# Altium footprint library Package_SON.PcbLib: 112 footprints (part 3 of 7)
Each footprint in its own frame and in the unit in brackets; x right, y up, seen from the top. Pads: shape width x height; smd on the part's side, far side on the other; paste and mask are expansions set on the pad; w line width, h text height; cw(c..) or ccw(c..) is an arc to the next point about the centre after c.
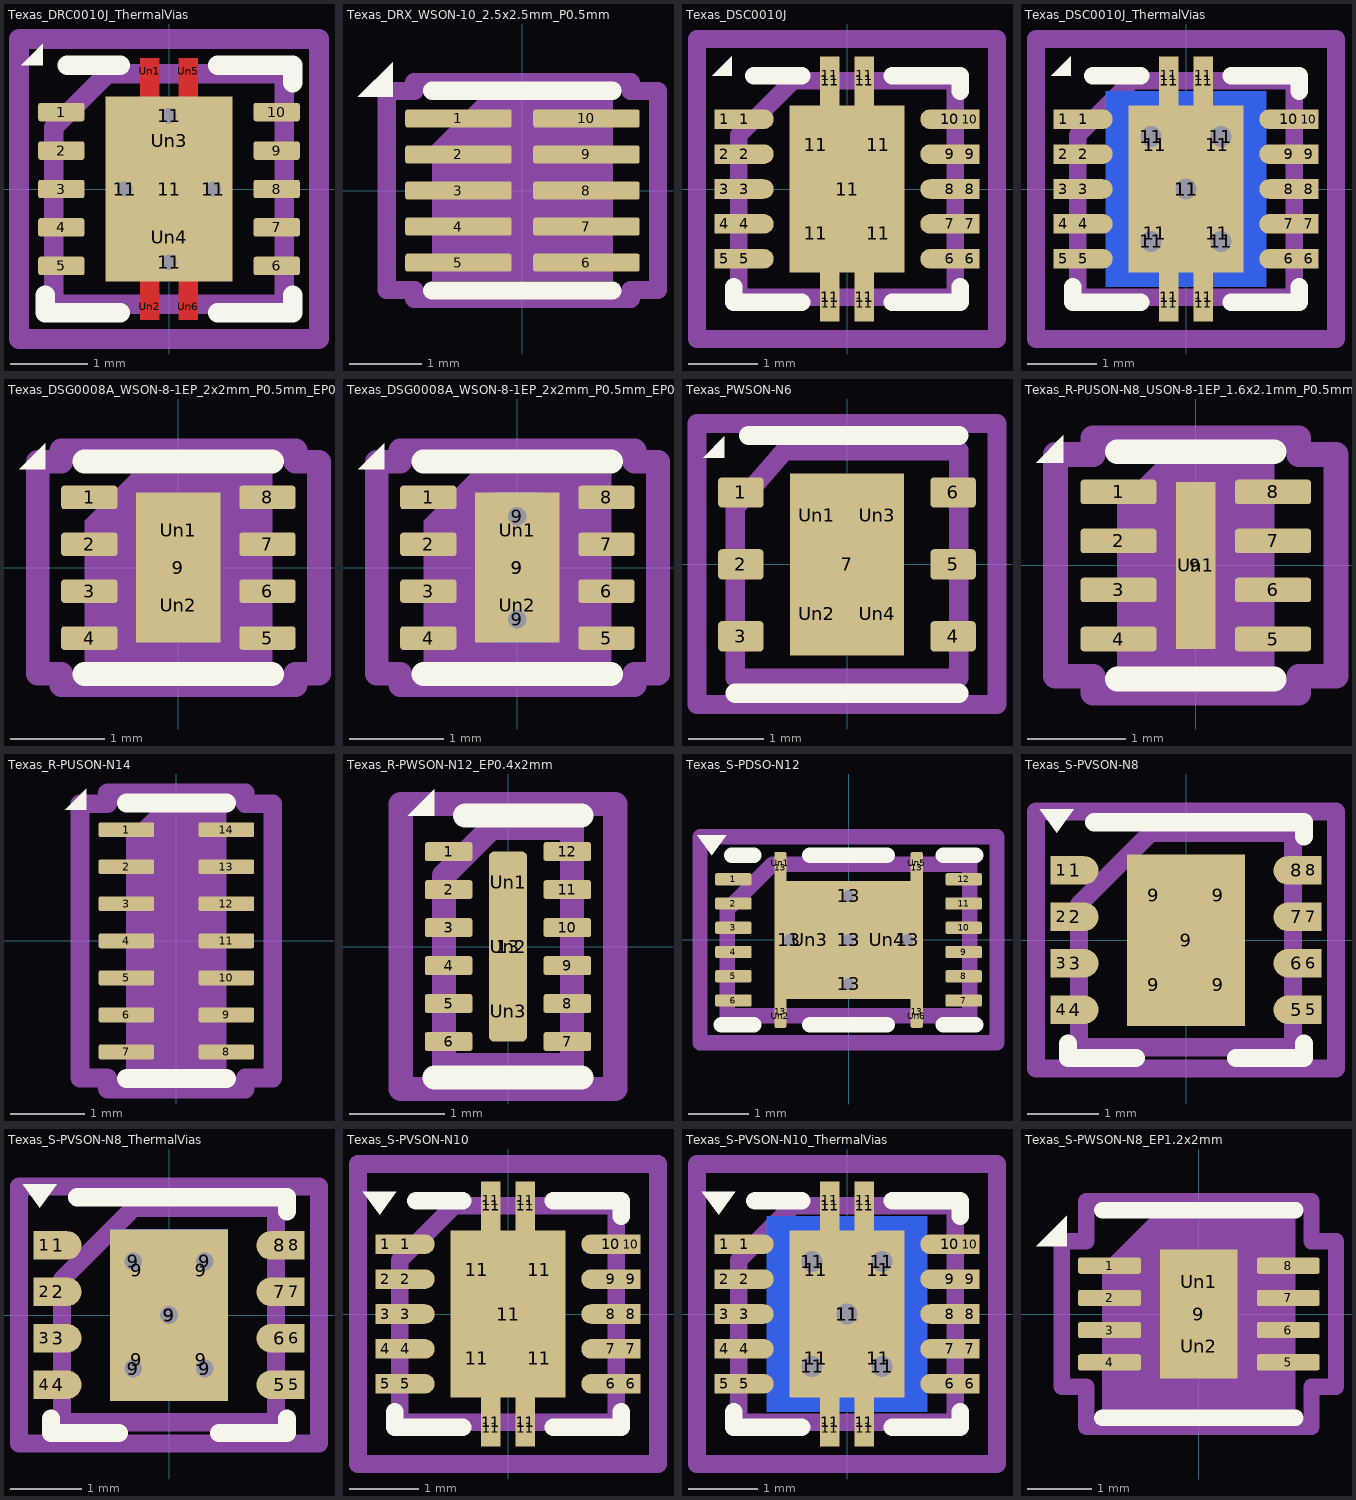
[diagram p2: the footprints below, top view; thin cyan lines are the x and y axes]

## Texas_DRC0010J_ThermalVias [mm] "Texas_DRC0010J_ThermalVias"
pads (21):
  rrect25% 0.6x0.24 smd: 1(-1.4,1) 2(-1.4,0.5) 3(-1.4,0) 4(-1.4,-0.5) 5(-1.4,-1) 6(1.4,-1) 7(1.4,-0.5) 8(1.4,0) 9(1.4,0.5) 10(1.4,1)
  round 0.5 hole 0.2: 11(-0.575,0) 11(0,-0.95) 11(0,0.95) 11(0.575,0)
  rect 1.65x2.4 smd: 11(0,0)
  rrect10% 0.25x0.34 on Top Paste: Un1(-0.25,1.53) Un2(-0.25,-1.53) Un5(0.25,1.53) Un6(0.25,-1.53)
  rrect10% 1.5x1.06 on Top Paste: Un3(0,0.63) Un4(0,-0.63)
F.Cu:
  region: 0.375,-1.7 0.125,-1.7 0.125,-1.1 -0.125,-1.1 -0.125,-1.7 -0.375,-1.7 -0.375,1.7 -0.125,1.7 -0.125,1.1 0.125,1.1 0.125,1.7 0.375,1.7
F.SilkS:
  region: -1.64,1.61 -1.92,1.61 -1.64,1.89
  lines w0.254: -1.61,-1.38 -1.61,-1.61 -0.635,-1.61 ; -1.32,1.61 -0.635,1.61 ; 0.635,-1.61 1.61,-1.61 1.61,-1.38 ; 0.635,1.61 1.61,1.61 1.61,1.38
F.Mask:
  region: 0.375,-1.7 0.125,-1.7 0.125,-1.1 -0.125,-1.1 -0.125,-1.7 -0.375,-1.7 -0.375,1.7 -0.125,1.7 -0.125,1.1 0.125,1.1 0.125,1.7 0.375,1.7
Top Component Center:
  lines w0.127: -0.127,0 0.127,0 ; 0,-0.127 0,0.127
Top Assembly:
  lines w0.254: -1.5,-1.5 -1.5,0.8 -0.8,1.5 1.5,1.5 1.5,-1.5 -1.5,-1.5
Top Courtyard:
  lines w0.254: -1.95,-1.95 -1.95,1.95 1.95,1.95 1.95,-1.95 -1.95,-1.95
Top Designator:
  text ".Designator" at -3.434,-0.345 h1.52

## Texas_DRX_WSON-10_2.5x2.5mm_P0.5mm [mm] "Texas_DRX_WSON-10_2.5x2.5mm_P0.5mm"
pads (10):
  rrect25% 1.475x0.25 smd: 1(-0.887,1) 2(-0.887,0.5) 3(-0.887,0) 4(-0.887,-0.5) 5(-0.887,-1) 6(0.887,-1) 7(0.887,-0.5) 8(0.887,0) 9(0.887,0.5) 10(0.887,1)
F.SilkS:
  region: -1.8,1.3 -2.28,1.3 -1.8,1.78
  lines w0.254: -1.25,-1.385 1.25,-1.385 ; -1.25,1.385 1.25,1.385
Top Component Center:
  lines w0.127: -0.127,0 0.127,0 ; 0,-0.127 0,0.127
Top Assembly:
  region: 1.25,-1.25 -1.25,-1.25 -1.25,0.625 -0.625,1.25 1.25,1.25
Top Courtyard:
  lines w0.254: -1.88,-1.38 -1.5,-1.38 -1.5,-1.5 1.5,-1.5 1.5,-1.38 1.88,-1.38 1.88,1.38 1.5,1.38 1.5,1.5 -1.5,1.5 -1.5,1.38 -1.88,1.38 -1.88,-1.38
Top Designator:
  text ".Designator" at -3.434,-0.345 h1.52

## Texas_DSC0010J [mm] "Texas_DSC0010J"
pads (33):
  rect 0.28x0.28 smd: 1(-1.76,1) 2(-1.76,0.5) 3(-1.76,0) 4(-1.76,-0.5) 5(-1.76,-1) 6(1.76,-1) 7(1.76,-0.5) 8(1.76,0) 9(1.76,0.5) 10(1.76,1)
  rrect100% 0.85x0.28 smd: 1(-1.475,1) 2(-1.475,0.5) 3(-1.475,0) 4(-1.475,-0.5) 5(-1.475,-1) 6(1.475,-1) 7(1.475,-0.5) 8(1.475,0) 9(1.475,0.5) 10(1.475,1)
  rect 0.68x1.05 smd: 11(-0.45,-0.635) 11(-0.45,0.635) 11(0.45,-0.635) 11(0.45,0.635)
  rect 0.26x0.5 smd: 11(-0.25,-1.63) 11(-0.25,1.63) 11(0.25,-1.63) 11(0.25,1.63)
  rect 0.28x0.7 smd: 11(-0.25,-1.55) 11(-0.25,1.55) 11(0.25,-1.55) 11(0.25,1.55)
  rect 1.65x2.4 smd: 11(0,0)
F.SilkS:
  region: -1.655,1.625 -1.935,1.625 -1.655,1.905
  lines w0.254: -1.625,-1.4 -1.625,-1.625 -0.65,-1.625 ; -1.335,1.625 -0.65,1.625 ; 0.65,-1.625 1.625,-1.625 1.625,-1.4 ; 0.65,1.625 1.625,1.625 1.625,1.4
Top Component Center:
  lines w0.127: -0.127,0 0.127,0 ; 0,-0.127 0,0.127
Top Assembly:
  lines w0.254: -1.55,-1.55 1.55,-1.55 1.55,1.55 -0.775,1.55 -1.55,0.775 -1.55,-1.55
Top Courtyard:
  lines w0.254: -2.15,-2.15 2.15,-2.15 2.15,2.15 -2.15,2.15 -2.15,-2.15
Top Designator:
  text ".Designator" at -3.434,-0.345 h1.52

## Texas_DSC0010J_ThermalVias [mm] "Texas_DSC0010J_ThermalVias"
pads (39):
  rect 0.28x0.28 smd: 1(-1.76,1) 2(-1.76,0.5) 3(-1.76,0) 4(-1.76,-0.5) 5(-1.76,-1) 6(1.76,-1) 7(1.76,-0.5) 8(1.76,0) 9(1.76,0.5) 10(1.76,1)
  rrect100% 0.85x0.28 smd: 1(-1.475,1) 2(-1.475,0.5) 3(-1.475,0) 4(-1.475,-0.5) 5(-1.475,-1) 6(1.475,-1) 7(1.475,-0.5) 8(1.475,0) 9(1.475,0.5) 10(1.475,1)
  round 0.6 hole 0.3: 11(-0.5,-0.75) 11(-0.5,0.75) 11(0,0) 11(0.5,-0.75) 11(0.5,0.75)
  rect 0.68x1.05 smd: 11(-0.45,-0.635) 11(-0.45,0.635) 11(0.45,-0.635) 11(0.45,0.635)
  rect 0.26x0.5 smd: 11(-0.25,-1.63) 11(-0.25,1.63) 11(0.25,-1.63) 11(0.25,1.63)
  rect 0.28x0.7 smd: 11(-0.25,-1.55) 11(-0.25,1.55) 11(0.25,-1.55) 11(0.25,1.55)
  rect 1.65x2.4 smd: 11(0,0)
  rect 2.3x2.8 smd far side: 11(0,0)
F.SilkS:
  region: -1.655,1.625 -1.935,1.625 -1.655,1.905
  lines w0.254: -1.625,-1.4 -1.625,-1.625 -0.65,-1.625 ; -1.335,1.625 -0.65,1.625 ; 0.65,-1.625 1.625,-1.625 1.625,-1.4 ; 0.65,1.625 1.625,1.625 1.625,1.4
Top Component Center:
  lines w0.127: -0.127,0 0.127,0 ; 0,-0.127 0,0.127
Top Assembly:
  lines w0.254: -1.55,-1.55 1.55,-1.55 1.55,1.55 -0.775,1.55 -1.55,0.775 -1.55,-1.55
Top Courtyard:
  lines w0.254: -2.15,-2.15 2.15,-2.15 2.15,2.15 -2.15,2.15 -2.15,-2.15
Top Designator:
  text ".Designator" at -3.434,-0.345 h1.52

## Texas_DSG0008A_WSON-8-1EP_2x2mm_P0.5mm_EP0.9x1.6mm [mm] "Texas_DSG0008A_WSON-8-1EP_2x2mm_P0.5mm_EP0.9x1.6mm"
pads (11):
  rrect25% 0.6x0.25 smd: 1(-0.95,0.75) 2(-0.95,0.25) 3(-0.95,-0.25) 4(-0.95,-0.75) 5(0.95,-0.75) 6(0.95,-0.25) 7(0.95,0.25) 8(0.95,0.75)
  rect 0.9x1.6 smd: 9(0,0)
  rrect25% 0.73x0.64 on Top Paste: Un1(0,0.4) Un2(0,-0.4)
F.SilkS:
  region: -1.42,1.05 -1.7,1.05 -1.42,1.33
  lines w0.254: -1,-1.135 1,-1.135 ; -1,1.135 1,1.135
Top Component Center:
  lines w0.127: -0.127,0 0.127,0 ; 0,-0.127 0,0.127
Top Assembly:
  region: 1,-1 -1,-1 -1,0.5 -0.5,1 1,1
Top Courtyard:
  lines w0.254: -1.5,-1.13 -1.5,1.13 -1.25,1.13 -1.25,1.25 1.25,1.25 1.25,1.13 1.5,1.13 1.5,-1.13 1.25,-1.13 1.25,-1.25 -1.25,-1.25 -1.25,-1.13 -1.5,-1.13
Top Designator:
  text ".Designator" at -2.252,-0.226 h1

## Texas_DSG0008A_WSON-8-1EP_2x2mm_P0.5mm_EP0.9x1.6mm_ThermalVias [mm] "Texas_DSG0008A_WSON-8-1EP_2x2mm_P0.5mm_EP0.9x1.6mm_ThermalVias"
pads (14):
  rrect25% 0.6x0.25 smd: 1(-0.95,0.75) 2(-0.95,0.25) 3(-0.95,-0.25) 4(-0.95,-0.75) 5(0.95,-0.75) 6(0.95,-0.25) 7(0.95,0.25) 8(0.95,0.75)
  round 0.5 hole 0.2: 9(0,-0.55) 9(0,0.55)
  rect 0.9x1.6 smd: 9(0,0)
  rect 0.5x1.6 smd far side: 9(0,0)
  rrect25% 0.83x0.74 on Top Paste: Un1(0,0.4) Un2(0,-0.4)
F.SilkS:
  region: -1.42,1.05 -1.7,1.05 -1.42,1.33
  lines w0.254: -1,-1.135 1,-1.135 ; -1,1.135 1,1.135
Top Component Center:
  lines w0.127: -0.127,0 0.127,0 ; 0,-0.127 0,0.127
Top Assembly:
  region: 1,-1 -1,-1 -1,0.5 -0.5,1 1,1
Top Courtyard:
  lines w0.254: -1.5,-1.13 -1.5,1.13 -1.25,1.13 -1.25,1.25 1.25,1.25 1.25,1.13 1.5,1.13 1.5,-1.13 1.25,-1.13 1.25,-1.25 -1.25,-1.25 -1.25,-1.13 -1.5,-1.13
Top Designator:
  text ".Designator" at -2.252,-0.226 h1

## Texas_PWSON-N6 [mm] "Texas_PWSON-N6"
pads (11):
  rrect25% 0.6x0.4 smd: 1(-1.4,0.95) 2(-1.4,0) 3(-1.4,-0.95) 4(1.4,-0.95) 5(1.4,0) 6(1.4,0.95)
  rect 1.5x2.4 smd: 7(0,0)
  rrect25% 0.6x1 on Top Paste: Un1(-0.4,0.65) Un2(-0.4,-0.65) Un3(0.4,0.65) Un4(0.4,-0.65)
F.SilkS:
  region: -1.62,1.41 -1.9,1.41 -1.62,1.69
  lines w0.254: -1.475,-1.7 1.475,-1.7 ; -1.3,1.7 1.475,1.7
Top Component Center:
  lines w0.127: -0.127,0 0.127,0 ; 0,-0.127 0,0.127
Top Assembly:
  lines w0.254: -1.475,-1.5 -1.475,0.75 -0.825,1.5 1.475,1.5 1.475,-1.5 -1.475,-1.5
Top Courtyard:
  lines w0.254: -1.98,1.85 -1.98,-1.85 1.98,-1.85 1.98,1.85 ; -1.98,1.86 1.98,1.86
Top Designator:
  text ".Designator" at -3.434,-0.345 h1.52

## Texas_R-PUSON-N8_USON-8-1EP_1.6x2.1mm_P0.5mm_EP0.4x1.7mm [mm] "Texas_R-PUSON-N8_USON-8-1EP_1.6x2.1mm_P0.5mm_EP0.4x1.7mm"
pads (10):
  rrect25% 0.775x0.25 smd: 1(-0.787,0.75) 2(-0.787,0.25) 3(-0.787,-0.25) 4(-0.787,-0.75) 5(0.787,-0.75) 6(0.787,-0.25) 7(0.787,0.25) 8(0.787,0.75)
  rect 0.4x1.7 smd: 9(0,0)
  rrect25% 0.32x1.37 on Top Paste: Un1(0,0)
F.SilkS:
  region: -1.35,1.05 -1.63,1.05 -1.35,1.33
  lines w0.254: -0.8,-1.16 0.8,-1.16 ; -0.8,1.16 0.8,1.16
Top Component Center:
  lines w0.127: -0.127,0 0.127,0 ; 0,-0.127 0,0.127
Top Assembly:
  region: 0.8,-1.05 -0.8,-1.05 -0.8,0.65 -0.4,1.05 0.8,1.05
Top Courtyard:
  lines w0.254: -1.43,-1.13 -1.05,-1.13 -1.05,-1.3 1.05,-1.3 1.05,-1.13 1.43,-1.13 1.43,1.13 1.05,1.13 1.05,1.3 -1.05,1.3 -1.05,1.13 -1.43,1.13 -1.43,-1.13
Top Designator:
  text ".Designator" at -2.252,-0.226 h1

## Texas_R-PUSON-N14 [mm] "Texas_R-PUSON-N14"
pads (14):
  rrect25% 0.75x0.2 smd: 1(-0.675,1.5) 2(-0.675,1) 3(-0.675,0.5) 4(-0.675,0) 5(-0.675,-0.5) 6(-0.675,-1) 7(-0.675,-1.5) 8(0.675,-1.5) 9(0.675,-1) 10(0.675,-0.5) 11(0.675,0) 12(0.675,0.5) 13(0.675,1) 14(0.675,1.5)
F.SilkS:
  region: -1.22,1.77 -1.5,1.77 -1.22,2.05
  lines w0.254: -0.675,-1.86 0.675,-1.86 ; -0.675,1.86 0.675,1.86
Top Component Center:
  lines w0.127: -0.127,0 0.127,0 ; 0,-0.127 0,0.127
Top Assembly:
  region: 0.675,-1.75 -0.675,-1.75 -0.675,1.412 -0.337,1.75 0.675,1.75
Top Courtyard:
  lines w0.254: -1.3,-1.85 -0.93,-1.85 -0.93,-2 0.93,-2 0.93,-1.85 1.3,-1.85 1.3,1.85 0.93,1.85 0.93,2 -0.93,2 -0.93,1.85 -1.3,1.85 -1.3,-1.85
Top Designator:
  text ".Designator" at -2.252,-0.226 h1

## Texas_R-PWSON-N12_EP0.4x2mm [mm] "Texas_R-PWSON-N12_EP0.4x2mm"
pads (16):
  rrect25% 0.5x0.2 smd: 1(-0.625,1) 2(-0.625,0.6) 3(-0.625,0.2) 4(-0.625,-0.2) 5(-0.625,-0.6) 6(-0.625,-1) 7(0.625,-1) 8(0.625,-0.6) 9(0.625,-0.2) 10(0.625,0.2) 11(0.625,0.6) 12(0.625,1)
  rrect25% 0.4x2 smd: 13(0,0)
  rrect25% 0.3x0.55 on Top Paste: Un1(0,0.68) Un2(0,0) Un3(0,-0.68)
F.SilkS:
  region: -0.775,1.38 -1.055,1.38 -0.775,1.66
  lines w0.254: -0.775,-1.38 0.775,-1.38 ; -0.45,1.38 0.775,1.38
Top Component Center:
  lines w0.127: -0.127,0 0.127,0 ; 0,-0.127 0,0.127
Top Assembly:
  lines w0.254: -0.675,-1.25 0.675,-1.25 0.675,1.25 -0.175,1.25 -0.675,0.75 -0.675,-1.25
Top Courtyard:
  lines w0.254: -1.13,-1.5 1.13,-1.5 1.13,1.5 -1.13,1.5 -1.13,-1.5
Top Designator:
  text ".Designator" at -2.252,-0.226 h1
3D body "Texas_R-PWSON-N12_EP0.4x2mm.step": height 0.77, standoff 0, extent -0.675,-1.24 0.675,1.24

## Texas_S-PDSO-N12 [mm] "Texas_S-PDSO-N12"
pads (28):
  rrect25% 0.6x0.2 smd: 1(-1.9,1) 2(-1.9,0.6) 3(-1.9,0.2) 4(-1.9,-0.2) 5(-1.9,-0.6) 6(-1.9,-1) 7(1.9,-1) 8(1.9,-0.6) 9(1.9,-0.2) 10(1.9,0.2) 11(1.9,0.6) 12(1.9,1)
  rrect25% 0.2x0.525 smd: 13(-1.125,-1.188) 13(-1.125,1.188) 13(1.125,-1.188) 13(1.125,1.188)
  round 0.5 hole 0.2: 13(-0.975,0) 13(0,-0.725) 13(0,0) 13(0,0.725) 13(0.975,0)
  rect 2.45x1.95 smd: 13(0,0)
  rrect25% 0.2x0.375 on Top Paste: Un1(-1.125,1.262) Un2(-1.125,-1.262) Un5(1.125,1.262) Un6(1.125,-1.262)
  rrect25% 1.08x1.75 on Top Paste: Un3(-0.64,0) Un4(0.64,0)
F.SilkS:
  region: -2.26,1.4 -2.5,1.73 -2.02,1.73
  lines w0.254: -2.1,-1.4 -1.56,-1.4 ; -1.93,1.397 -1.56,1.397 ; -0.64,-1.4 0.64,-1.4 ; -0.64,1.4 0.64,1.4 ; 1.56,-1.4 2.1,-1.4 ; 1.56,1.4 2.1,1.4
Top Component Center:
  lines w0.127: -0.127,0 0.127,0 ; 0,-0.127 0,0.127
Top Assembly:
  lines w0.254: -2,-1.25 2,-1.25 2,1.25 -1.25,1.25 -2,0.5 -2,-1.25
Top Courtyard:
  lines w0.254: -2.45,-1.7 2.45,-1.7 2.45,1.7 -2.45,1.7 -2.45,-1.7
Top Designator:
  text ".Designator" at -3.434,-0.345 h1.52
3D body "Texas_S-PDSO-N12.step": height 0.92, standoff 0, extent -2,-1.25 2,1.25

## Texas_S-PVSON-N8 [mm] "Texas_S-PVSON-N8"
pads (21):
  rect 0.3x0.4 smd: 1(-1.75,0.975) 2(-1.75,0.325) 3(-1.75,-0.325) 4(-1.75,-0.975) 5(1.75,-0.975) 6(1.75,-0.325) 7(1.75,0.325) 8(1.75,0.975)
  rrect100% 0.65x0.4 smd: 1(-1.55,0.975) 2(-1.55,0.325) 3(-1.55,-0.325) 4(-1.55,-0.975) 5(1.55,-0.975) 6(1.55,-0.325) 7(1.55,0.325) 8(1.55,0.975)
  rect 0.65x1 smd: 9(-0.45,-0.625) 9(-0.45,0.625) 9(0.45,-0.625) 9(0.45,0.625)
  rect 1.65x2.4 smd: 9(0,0)
F.SilkS:
  region: -1.81,1.5 -2.05,1.83 -1.57,1.83
  lines w0.254: -1.65,-1.45 -1.65,-1.65 -0.7,-1.65 ; -1.285,1.65 1.65,1.65 1.65,1.45 ; 0.7,-1.65 1.65,-1.65 1.65,-1.45
Top Component Center:
  lines w0.127: -0.127,0 0.127,0 ; 0,-0.127 0,0.127
Top Assembly:
  lines w0.254: -1.5,-1.5 1.5,-1.5 1.5,1.5 -0.5,1.5 -1.5,0.5 -1.5,-1.5
Top Courtyard:
  lines w0.254: -2.1,-1.8 2.1,-1.8 2.1,1.8 -2.1,1.8 -2.1,-1.8
Top Designator:
  text ".Designator" at -3.434,-0.345 h1.52
3D body "Texas_S-PVSON-N8.step": height 0.92, standoff 0, extent -1.5,-1.49 1.5,1.49

## Texas_S-PVSON-N8_ThermalVias [mm] "Texas_S-PVSON-N8_ThermalVias"
pads (27):
  rect 0.3x0.4 smd: 1(-1.75,0.975) 2(-1.75,0.325) 3(-1.75,-0.325) 4(-1.75,-0.975) 5(1.75,-0.975) 6(1.75,-0.325) 7(1.75,0.325) 8(1.75,0.975)
  rrect100% 0.65x0.4 smd: 1(-1.55,0.975) 2(-1.55,0.325) 3(-1.55,-0.325) 4(-1.55,-0.975) 5(1.55,-0.975) 6(1.55,-0.325) 7(1.55,0.325) 8(1.55,0.975)
  round 0.6 hole 0.25: 9(-0.5,-0.75) 9(-0.5,0.75) 9(0,0) 9(0.5,-0.75) 9(0.5,0.75)
  rect 0.65x1 smd: 9(-0.45,-0.625) 9(-0.45,0.625) 9(0.45,-0.625) 9(0.45,0.625)
  rect 1.65x2.4 smd: 9(0,0)
  rect 1.65x2.4 smd far side: 9(0,0)
F.SilkS:
  region: -1.81,1.5 -2.05,1.83 -1.57,1.83
  lines w0.254: -1.65,-1.45 -1.65,-1.65 -0.7,-1.65 ; -1.285,1.65 1.65,1.65 1.65,1.45 ; 0.7,-1.65 1.65,-1.65 1.65,-1.45
Top Component Center:
  lines w0.127: -0.127,0 0.127,0 ; 0,-0.127 0,0.127
Top Assembly:
  lines w0.254: -1.5,-1.5 1.5,-1.5 1.5,1.5 -0.5,1.5 -1.5,0.5 -1.5,-1.5
Top Courtyard:
  lines w0.254: -2.1,-1.8 2.1,-1.8 2.1,1.8 -2.1,1.8 -2.1,-1.8
Top Designator:
  text ".Designator" at -3.434,-0.345 h1.52
3D body "Texas_S-PVSON-N8.step": height 0.92, standoff 0, extent -1.5,-1.49 1.5,1.49

## Texas_S-PVSON-N10 [mm] "Texas_S-PVSON-N10"
pads (33):
  rect 0.28x0.28 smd: 1(-1.76,1) 2(-1.76,0.5) 3(-1.76,0) 4(-1.76,-0.5) 5(-1.76,-1) 6(1.76,-1) 7(1.76,-0.5) 8(1.76,0) 9(1.76,0.5) 10(1.76,1)
  rrect100% 0.85x0.28 smd: 1(-1.475,1) 2(-1.475,0.5) 3(-1.475,0) 4(-1.475,-0.5) 5(-1.475,-1) 6(1.475,-1) 7(1.475,-0.5) 8(1.475,0) 9(1.475,0.5) 10(1.475,1)
  rect 0.68x1.05 smd: 11(-0.45,-0.635) 11(-0.45,0.635) 11(0.45,-0.635) 11(0.45,0.635)
  rect 0.26x0.5 smd: 11(-0.25,-1.63) 11(-0.25,1.63) 11(0.25,-1.63) 11(0.25,1.63)
  rect 0.28x0.7 smd: 11(-0.25,-1.55) 11(-0.25,1.55) 11(0.25,-1.55) 11(0.25,1.55)
  rect 1.65x2.4 smd: 11(0,0)
F.SilkS:
  region: -1.84,1.42 -2.08,1.75 -1.6,1.75
  lines w0.254: -1.625,-1.4 -1.625,-1.625 -0.65,-1.625 ; -1.32,1.625 -0.65,1.625 ; 0.65,-1.625 1.625,-1.625 1.625,-1.4 ; 0.65,1.625 1.625,1.625 1.625,1.4
Top Component Center:
  lines w0.127: -0.127,0 0.127,0 ; 0,-0.127 0,0.127
Top Assembly:
  lines w0.254: -1.55,-1.55 1.55,-1.55 1.55,1.55 -0.775,1.55 -1.55,0.775 -1.55,-1.55
Top Courtyard:
  lines w0.254: -2.15,-2.15 2.15,-2.15 2.15,2.15 -2.15,2.15 -2.15,-2.15
Top Designator:
  text ".Designator" at -3.434,-0.345 h1.52
3D body "Texas_S-PVSON-N10.step": height 0.92, standoff 0, extent -1.5,-1.5 1.5,1.5

## Texas_S-PVSON-N10_ThermalVias [mm] "Texas_S-PVSON-N10_ThermalVias"
pads (39):
  rect 0.28x0.28 smd: 1(-1.76,1) 2(-1.76,0.5) 3(-1.76,0) 4(-1.76,-0.5) 5(-1.76,-1) 6(1.76,-1) 7(1.76,-0.5) 8(1.76,0) 9(1.76,0.5) 10(1.76,1)
  rrect100% 0.85x0.28 smd: 1(-1.475,1) 2(-1.475,0.5) 3(-1.475,0) 4(-1.475,-0.5) 5(-1.475,-1) 6(1.475,-1) 7(1.475,-0.5) 8(1.475,0) 9(1.475,0.5) 10(1.475,1)
  round 0.6 hole 0.3: 11(-0.5,-0.75) 11(-0.5,0.75) 11(0,0) 11(0.5,-0.75) 11(0.5,0.75)
  rect 0.68x1.05 smd: 11(-0.45,-0.635) 11(-0.45,0.635) 11(0.45,-0.635) 11(0.45,0.635)
  rect 0.26x0.5 smd: 11(-0.25,-1.63) 11(-0.25,1.63) 11(0.25,-1.63) 11(0.25,1.63)
  rect 0.28x0.7 smd: 11(-0.25,-1.55) 11(-0.25,1.55) 11(0.25,-1.55) 11(0.25,1.55)
  rect 1.65x2.4 smd: 11(0,0)
  rect 2.3x2.8 smd far side: 11(0,0)
F.SilkS:
  region: -1.84,1.42 -2.08,1.75 -1.6,1.75
  lines w0.254: -1.625,-1.4 -1.625,-1.625 -0.65,-1.625 ; -1.32,1.625 -0.65,1.625 ; 0.65,-1.625 1.625,-1.625 1.625,-1.4 ; 0.65,1.625 1.625,1.625 1.625,1.4
Top Component Center:
  lines w0.127: -0.127,0 0.127,0 ; 0,-0.127 0,0.127
Top Assembly:
  lines w0.254: -1.55,-1.55 1.55,-1.55 1.55,1.55 -0.775,1.55 -1.55,0.775 -1.55,-1.55
Top Courtyard:
  lines w0.254: -2.15,-2.15 2.15,-2.15 2.15,2.15 -2.15,2.15 -2.15,-2.15
Top Designator:
  text ".Designator" at -3.434,-0.345 h1.52
3D body "Texas_S-PVSON-N10.step": height 0.92, standoff 0, extent -1.5,-1.5 1.5,1.5

## Texas_S-PWSON-N8_EP1.2x2mm [mm] "Texas_S-PWSON-N8_EP1.2x2mm"
pads (11):
  rrect25% 0.975x0.25 smd: 1(-1.388,0.75) 2(-1.388,0.25) 3(-1.388,-0.25) 4(-1.388,-0.75) 5(1.388,-0.75) 6(1.388,-0.25) 7(1.388,0.25) 8(1.388,0.75)
  rect 1.2x2 smd: 9(0,0)
  rrect25% 0.97x0.81 on Top Paste: Un1(0,0.5) Un2(0,-0.5)
F.SilkS:
  region: -2.05,1.05 -2.53,1.05 -2.05,1.53
  lines w0.254: -1.5,-1.61 1.5,-1.61 ; -1.5,1.61 1.5,1.61
Top Component Center:
  lines w0.127: -0.127,0 0.127,0 ; 0,-0.127 0,0.127
Top Assembly:
  region: 1.5,-1.5 -1.5,-1.5 -1.5,0.75 -0.75,1.5 1.5,1.5
Top Courtyard:
  lines w0.254: -2.13,-1.13 -1.75,-1.13 -1.75,-1.75 1.75,-1.75 1.75,-1.13 2.13,-1.13 2.13,1.13 1.75,1.13 1.75,1.75 -1.75,1.75 -1.75,1.13 -2.13,1.13 -2.13,-1.13
Top Designator:
  text ".Designator" at -3.434,-0.345 h1.52